# EAGLE library part PIN_1X16 (library FaBo-PIN)
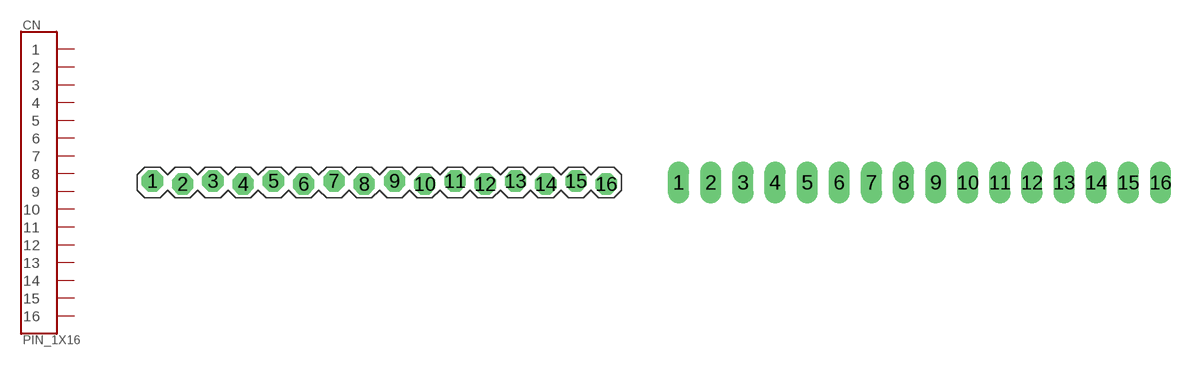
[diagram p5: symbol with the pads of PIN_1X16_SNEAKY; footprints PIN_1X16_SNEAKY, PIN_1X16_LONG]

Designator prefix CN

## PIN_1X16-SNEAKY  [PIN_1X16_SNEAKY]
1  1
2  2
3  3
4  4
5  5
6  6
7  7
8  8
9  9
10  10
11  11
12  12
13  13
14  14
15  15
16  16

## PIN_1X16-LONG  [PIN_1X16_LONG]
Pads as for PIN_1X16_SNEAKY

## PIN_1X16  [PIN_1X16]
Pads as for PIN_1X16_SNEAKY

## Footprint PIN_1X16_SNEAKY (pad centres in mm)
drill 1 pad 1.778 octagon: 1 -19.05,0.127; 2 -16.51,-0.127; 3 -13.97,0.127; 4 -11.43,-0.127; 5 -8.89,0.127; 6 -6.35,-0.127; 7 -3.81,0.127; 8 -1.27,-0.127; 9 1.27,0.127; 10 3.81,-0.127; 11 6.35,0.127; 12 8.89,-0.127; 13 11.43,0.127; 14 13.97,-0.127; 15 16.51,0.127; 16 19.05,-0.127

## Footprint PIN_1X16_LONG (pad centres in mm)
drill 1 pad 1.676 long: 1 -19.05,0; 2 -16.51,0; 3 -13.97,0; 4 -11.43,0; 5 -8.89,0; 6 -6.35,0; 7 -3.81,0; 8 -1.27,0; 9 1.27,0; 10 3.81,0; 11 6.35,0; 12 8.89,0; 13 11.43,0; 14 13.97,0; 15 16.51,0; 16 19.05,0

## Footprint PIN_1X16 (pad centres in mm)
drill 1 pad 1.676 square: 1 -19.05,0
drill 1 pad 1.676 octagon: 2 -16.51,0; 3 -13.97,0; 4 -11.43,0; 5 -8.89,0; 6 -6.35,0; 7 -3.81,0; 8 -1.27,0; 9 1.27,0; 10 3.81,0; 11 6.35,0; 12 8.89,0; 13 11.43,0; 14 13.97,0; 15 16.51,0; 16 19.05,0